# Altium footprint library ATWILC3000-MR110UA.PcbLib: 1 footprints
Each footprint in its own frame and in the unit in brackets; x right, y up, seen from the top. Pads: shape width x height; smd on the part's side, far side on the other; paste and mask are expansions set on the pad; w line width, h text height; cw(c..) or ccw(c..) is an arc to the next point about the centre after c.
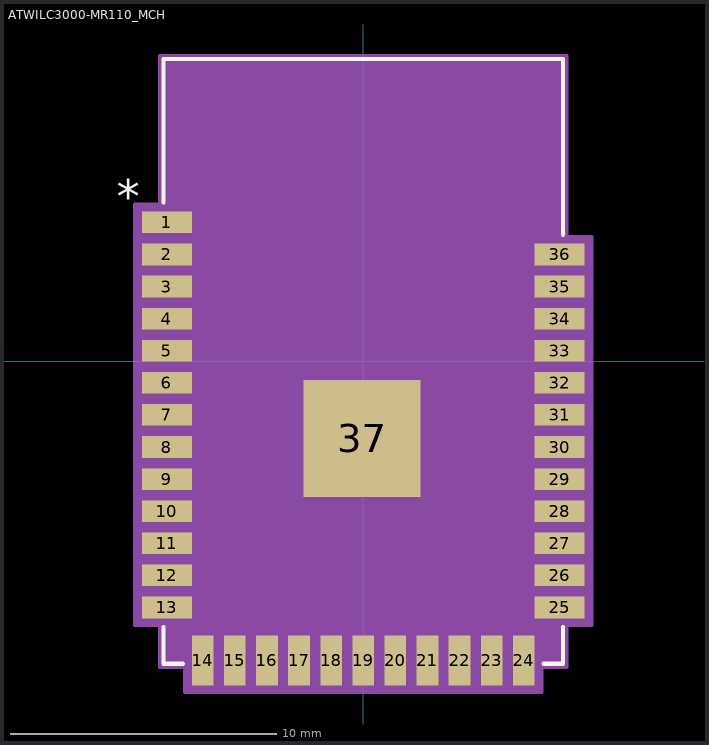
[diagram p0: the footprint, top view; thin cyan lines are the x and y axes]

## ATWILC3000-MR110_MCH [mil]
pads (37):
  rect 74x32 smd paste+0 mask+0: 1(-290,205.46) 2(-290,158.06) 3(-290,110.66) 4(-290,63.26) 5(-290,15.86) 6(-290,-31.54) 7(-290,-78.94) 8(-290,-126.34) 9(-290,-173.74) 10(-290,-221.14) 11(-290,-268.54) 12(-290,-315.94) 13(-290,-363.34) 25(290,-363.34) 26(290,-315.94) 27(290,-268.54) 28(290,-221.14) 29(290,-173.74) 30(290,-126.34) 31(290,-78.94) 32(290,-31.54) 33(290,15.86) 34(290,63.26) 35(290,110.66) 36(290,158.06)
  rect 32x74 smd paste+0 mask+0: 14(-237.1,-441.5) 15(-189.7,-441.5) 16(-142.3,-441.5) 17(-94.9,-441.5) 18(-47.5,-441.5) 19(-0.1,-441.5) 20(47.3,-441.5) 21(94.7,-441.5) 22(142.1,-441.5) 23(189.5,-441.5) 24(236.9,-441.5)
  rect 173x173 smd paste-86.5 mask+0: 37(-1.89,-113.62)
Top Overlay:
  lines w6: -295,-392.44 -295,-446.5 -266.2,-446.5 ; -295,234.56 -295,446.5 295,446.5 295,187.16 ; 266,-446.5 295,-446.5 295,-392.44
  text "*" at -364.5,219.16 h50
Top Paste:
  region: -34.66,-31.06 -84.45,-31.06 -84.45,-80.85 -34.66,-80.85
  region: -34.66,-88.73 -84.45,-88.73 -84.45,-138.52 -34.66,-138.52
  region: -34.66,-146.39 -84.45,-146.39 -84.45,-196.19 -34.66,-196.19
  region: 23.01,-31.06 -26.79,-31.06 -26.79,-80.85 23.01,-80.85
  region: 23.01,-88.73 -26.79,-88.73 -26.79,-138.52 23.01,-138.52
  region: 23.01,-146.39 -26.79,-146.39 -26.79,-196.19 23.01,-196.19
  region: 80.67,-31.06 30.88,-31.06 30.88,-80.85 80.67,-80.85
  region: 80.67,-88.73 30.88,-88.73 30.88,-138.52 80.67,-138.52
  region: 80.67,-146.39 30.88,-146.39 30.88,-196.19 80.67,-196.19
Mechanical 13:
  lines w1: -290,391.5 -240,441.5 ; -290,-441.5 290,-441.5 290,441.5 -290,441.5 -290,-441.5
  text "*" at -255.5,204.16 h50
Mechanical 15:
  region: 337,184.06 300,184.06 300,451.5 -300,451.5 -300,231.46 -337,231.46 -337,-389.34 -300,-389.34 -300,-451.5 -263.1,-451.5 -263.1,-488.5 262.9,-488.5 262.9,-451.5 300,-451.5 300,-389.34 337,-389.34
  lines w6: -337,-389.34 -337,231.46 -300,231.46 -300,451.5 300,451.5 300,184.06 337,184.06 337,-389.34 300,-389.34 300,-451.5 262.9,-451.5 262.9,-488.5 -263.1,-488.5 -263.1,-451.5 -300,-451.5 -300,-389.34 -337,-389.34